# Altium footprint library PcbLib1.PcbLib: 2 footprints
Each footprint in its own frame and in the unit in brackets; x right, y up, seen from the top. Pads: shape width x height; smd on the part's side, far side on the other; paste and mask are expansions set on the pad; w line width, h text height; cw(c..) or ccw(c..) is an arc to the next point about the centre after c.
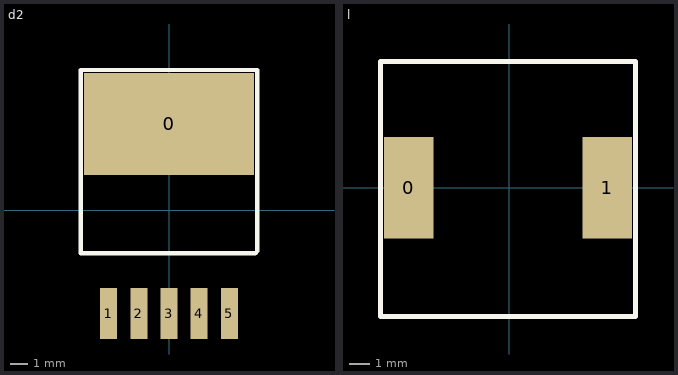
[diagram p0: the footprints below, top view; thin cyan lines are the x and y axes]

## d2 [mm]
pads (6):
  rect 10x6 smd: 0(0,5.08)
  rect 1x3 smd: 1(-3.556,-6.096) 2(-1.778,-6.096) 3(0,-6.096) 4(1.778,-6.096) 5(3.556,-6.096)
Top Overlay:
  lines w0.254: -5.207,-2.54 5.08,-2.54 5.207,-2.413 5.207,8.255 -5.207,8.255 -5.207,-2.54

## l [mm]
pads (2):
  rect 2.45x5 smd: 0(-4.953,0) 1(4.826,0)
Top Overlay:
  lines w0.254: -6.35,-6.35 -6.35,6.223 6.223,6.223 6.223,-6.35 -6.35,-6.35